# EAGLE library part ISO1540 (library magzor)
low-power bidirectional I2C isolator Note that the ISO1540 has a bidirectional clock, whereas the clock is on side #1 on the ISO1541
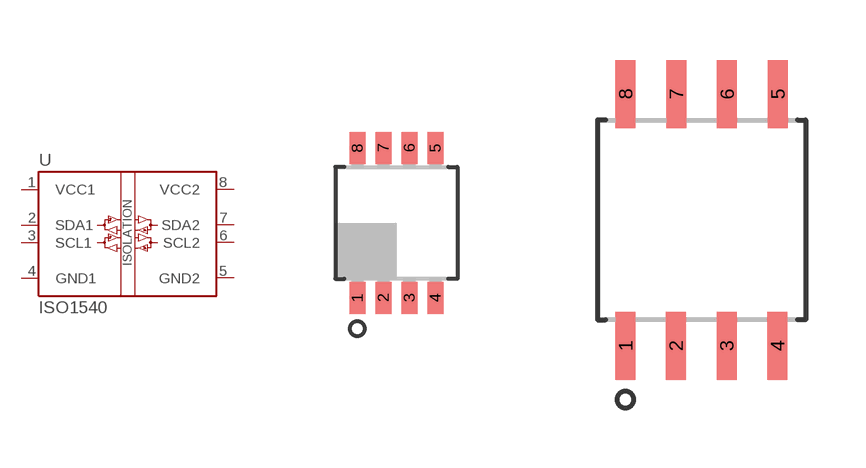
[diagram p15: symbol with the pads of R-PDSO-G8; footprints R-PDSO-G8, SOIC8]

Designator prefix U

## ISO1540R-PDSO-G8  [R-PDSO-G8]
1  VCC1
2  SDA1
3  SCL1
4  GND1
5  GND2
6  SCL2
7  SDA2
8  VCC2

## ISO1540D*  [SOIC8]
Pads as for R-PDSO-G8

## Footprint R-PDSO-G8 (pad centres in mm)
TI plastic small outline package
smd 0.4 x 0.8: 1 -0.975,-1.875; 2 -0.325,-1.875; 3 0.325,-1.875; 4 0.975,-1.875; 5 0.975,1.875; 6 0.325,1.875; 7 -0.325,1.875; 8 -0.975,1.875

## Footprint SOIC8 (pad centres in mm)
smd 0.5 x 1.7: 1 -1.905,-3.15; 2 -0.645,-3.15; 3 0.625,-3.15; 4 1.895,-3.15; 5 1.905,3.15; 6 0.635,3.15; 7 -0.635,3.15; 8 -1.905,3.15